# Altium footprint library QFN_Sq_50P_Side_V.PcbLib: 22 footprints (part 2 of 2)
Each footprint in its own frame and in the unit in brackets; x right, y up, seen from the top. Pads: shape width x height; smd on the part's side, far side on the other; paste and mask are expansions set on the pad; w line width, h text height; cw(c..) or ccw(c..) is an arc to the next point about the centre after c.
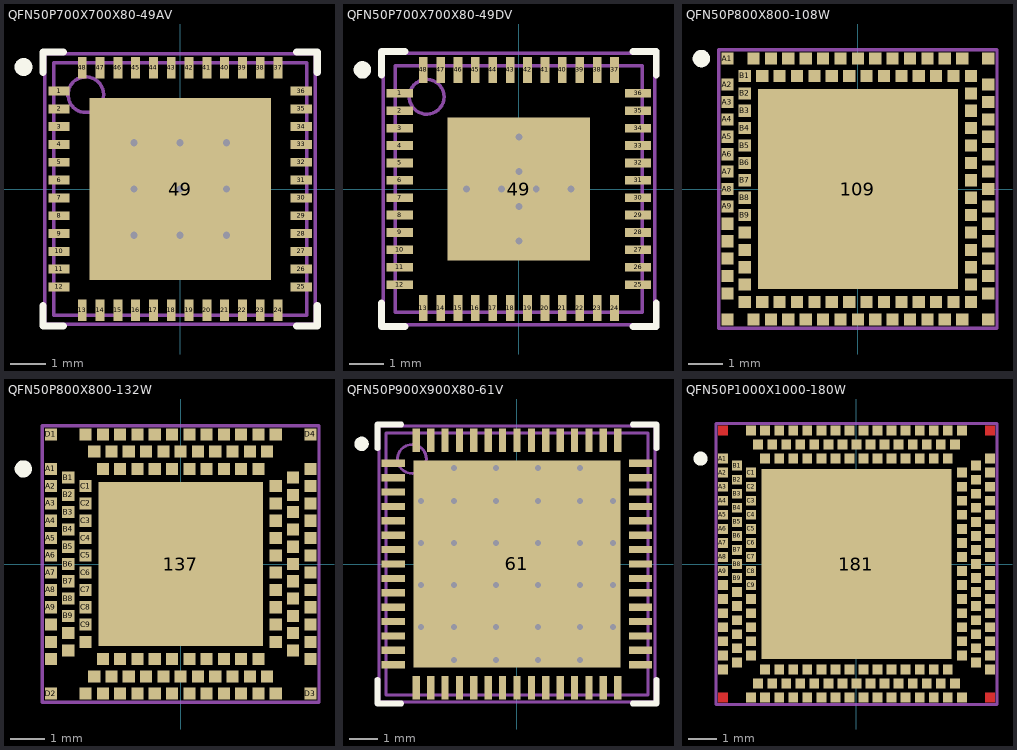
[diagram p1: the footprints below, top view; thin cyan lines are the x and y axes]

## QFN50P700X700X80-49AV [mm] "QFN, 48-Leads, Body 7x7mm, Pitch 0.5mm, NSC Recommended"
height 0.8
pads (49):
  rect 0.6x0.25 smd paste-0.125 mask+0.051: 1(-3.4,2.75) 2(-3.4,2.25) 3(-3.4,1.75) 4(-3.4,1.25) 5(-3.4,0.75) 6(-3.4,0.25) 7(-3.4,-0.25) 8(-3.4,-0.75) 9(-3.4,-1.25) 10(-3.4,-1.75) 11(-3.4,-2.25) 12(-3.4,-2.75) 25(3.4,-2.75) 26(3.4,-2.25) 27(3.4,-1.75) 28(3.4,-1.25) 29(3.4,-0.75) 30(3.4,-0.25) 31(3.4,0.25) 32(3.4,0.75) 33(3.4,1.25) 34(3.4,1.75) 35(3.4,2.25) 36(3.4,2.75)
  rect 0.25x0.6 smd paste-0.125 mask+0.051: 13(-2.75,-3.4) 14(-2.25,-3.4) 15(-1.75,-3.4) 16(-1.25,-3.4) 17(-0.75,-3.4) 18(-0.25,-3.4) 19(0.25,-3.4) 20(0.75,-3.4) 21(1.25,-3.4) 22(1.75,-3.4) 23(2.25,-3.4) 24(2.75,-3.4) 37(2.75,3.4) 38(2.25,3.4) 39(1.75,3.4) 40(1.25,3.4) 41(0.75,3.4) 42(0.25,3.4) 43(-0.25,3.4) 44(-0.75,3.4) 45(-1.25,3.4) 46(-1.75,3.4) 47(-2.25,3.4) 48(-2.75,3.4)
  rect 5.1x5.1 smd paste-2.55 mask+0.051: 49(0,0)
via 0,0 diameter 0.5 hole 0.2
via 1.3,0 diameter 0.5 hole 0.2
via -1.3,0 diameter 0.5 hole 0.2
via -1.3,1.3 diameter 0.5 hole 0.2
via 1.3,1.3 diameter 0.5 hole 0.2
via 0,1.3 diameter 0.5 hole 0.2
via -1.3,-1.3 diameter 0.5 hole 0.2
via 1.3,-1.3 diameter 0.5 hole 0.2
via 0,-1.3 diameter 0.5 hole 0.2
Top Overlay:
  circle w0.25: c-4.4,3.425 r0.125
  lines w0.2: -3.85,-3.275 -3.85,-3.85 -3.275,-3.85 ; -3.85,3.275 -3.85,3.85 -3.275,3.85 ; 3.275,-3.85 3.85,-3.85 3.85,-3.275 ; 3.275,3.85 3.85,3.85 3.85,3.275
Top Paste:
  region: 0.1,-0.1 0.1,-1.2 1.2,-1.2 1.2,-0.1
  region: 1.4,-0.1 1.4,-1.2 2.5,-1.2 2.5,-0.1
  region: 0.1,-1.4 0.1,-2.5 1.2,-2.5 1.2,-1.4
  region: 1.4,-1.4 1.4,-2.5 2.5,-2.5 2.5,-1.4
  region: -1.2,-0.1 -1.2,-1.2 -0.1,-1.2 -0.1,-0.1
  region: -2.5,-0.1 -2.5,-1.2 -1.4,-1.2 -1.4,-0.1
  region: -1.2,-1.4 -1.2,-2.5 -0.1,-2.5 -0.1,-1.4
  region: -2.5,-1.4 -2.5,-2.5 -1.4,-2.5 -1.4,-1.4
  region: -0.1,1.2 -1.2,1.2 -1.2,0.1 -0.1,0.1
  region: -0.1,2.5 -1.2,2.5 -1.2,1.4 -0.1,1.4
  region: -1.4,1.2 -2.5,1.2 -2.5,0.1 -1.4,0.1
  region: -1.4,2.5 -2.5,2.5 -2.5,1.4 -1.4,1.4
  rectangle: 1.4,1.4 2.5,2.5
  rectangle: 1.4,0.1 2.5,1.2
  rectangle: 0.1,1.4 1.2,2.5
  rectangle: 0.1,0.1 1.2,1.2
  region: 2.625,3.9 2.625,3.2 2.875,3.2 2.875,3.9
  region: 2.125,3.9 2.125,3.2 2.375,3.2 2.375,3.9
  region: 1.625,3.9 1.625,3.2 1.875,3.2 1.875,3.9
  region: 1.125,3.9 1.125,3.2 1.375,3.2 1.375,3.9
  region: 0.625,3.9 0.625,3.2 0.875,3.2 0.875,3.9
  region: 0.125,3.9 0.125,3.2 0.375,3.2 0.375,3.9
  region: -0.375,3.9 -0.375,3.2 -0.125,3.2 -0.125,3.9
  region: -0.875,3.9 -0.875,3.2 -0.625,3.2 -0.625,3.9
  region: -1.375,3.9 -1.375,3.2 -1.125,3.2 -1.125,3.9
  region: -1.875,3.9 -1.875,3.2 -1.625,3.2 -1.625,3.9
  region: -2.375,3.9 -2.375,3.2 -2.125,3.2 -2.125,3.9
  region: -2.875,3.9 -2.875,3.2 -2.625,3.2 -2.625,3.9
  region: 3.9,-2.625 3.2,-2.625 3.2,-2.875 3.9,-2.875
  region: 3.9,-2.125 3.2,-2.125 3.2,-2.375 3.9,-2.375
  region: 3.9,-1.625 3.2,-1.625 3.2,-1.875 3.9,-1.875
  region: 3.9,-1.125 3.2,-1.125 3.2,-1.375 3.9,-1.375
  region: 3.9,-0.625 3.2,-0.625 3.2,-0.875 3.9,-0.875
  region: 3.9,-0.125 3.2,-0.125 3.2,-0.375 3.9,-0.375
  region: 3.9,0.375 3.2,0.375 3.2,0.125 3.9,0.125
  region: 3.9,0.875 3.2,0.875 3.2,0.625 3.9,0.625
  region: 3.9,1.375 3.2,1.375 3.2,1.125 3.9,1.125
  region: 3.9,1.875 3.2,1.875 3.2,1.625 3.9,1.625
  region: 3.9,2.375 3.2,2.375 3.2,2.125 3.9,2.125
  region: 3.9,2.875 3.2,2.875 3.2,2.625 3.9,2.625
  region: -2.625,-3.9 -2.625,-3.2 -2.875,-3.2 -2.875,-3.9
  region: -2.125,-3.9 -2.125,-3.2 -2.375,-3.2 -2.375,-3.9
  region: -1.625,-3.9 -1.625,-3.2 -1.875,-3.2 -1.875,-3.9
  region: -1.125,-3.9 -1.125,-3.2 -1.375,-3.2 -1.375,-3.9
  region: -0.625,-3.9 -0.625,-3.2 -0.875,-3.2 -0.875,-3.9
  region: -0.125,-3.9 -0.125,-3.2 -0.375,-3.2 -0.375,-3.9
  region: 0.375,-3.9 0.375,-3.2 0.125,-3.2 0.125,-3.9
  region: 0.875,-3.9 0.875,-3.2 0.625,-3.2 0.625,-3.9
  region: 1.375,-3.9 1.375,-3.2 1.125,-3.2 1.125,-3.9
  region: 1.875,-3.9 1.875,-3.2 1.625,-3.2 1.625,-3.9
  region: 2.375,-3.9 2.375,-3.2 2.125,-3.2 2.125,-3.9
  region: 2.875,-3.9 2.875,-3.2 2.625,-3.2 2.625,-3.9
  rectangle: -3.9,-2.875 -3.2,-2.625
  rectangle: -3.9,-2.375 -3.2,-2.125
  rectangle: -3.9,-1.875 -3.2,-1.625
  rectangle: -3.9,-1.375 -3.2,-1.125
  rectangle: -3.9,-0.875 -3.2,-0.625
  rectangle: -3.9,-0.375 -3.2,-0.125
  rectangle: -3.9,0.125 -3.2,0.375
  rectangle: -3.9,0.625 -3.2,0.875
  rectangle: -3.9,1.125 -3.2,1.375
  rectangle: -3.9,1.625 -3.2,1.875
  rectangle: -3.9,2.125 -3.2,2.375
  rectangle: -3.9,2.625 -3.2,2.875
Mechanical 13:
  circle w0.1: c-2.65,2.65 r0.5
  lines w0.1: -3.55,-3.55 -3.55,3.55 3.55,3.55 3.55,-3.55 -3.55,-3.55
Mechanical 15:
  lines w0.1: -0.5,0 0.5,0 ; 0,-0.5 0,0.5 ; -3.8,-3.8 -3.8,3.8 3.8,3.8 3.8,-3.8 -3.8,-3.8
3D body: height 0.8, standoff 0, extent -3.55,-3.55 3.55,3.55

## QFN50P700X700X80-49DV [mm] "QFN, 48-Leads, Body 7x7mm, Pitch 0.5mm, NSC Recommended"
height 0.8
pads (49):
  rect 0.75x0.25 smd paste-0.125 mask+0.051: 1(-3.425,2.75) 2(-3.425,2.25) 3(-3.425,1.75) 4(-3.425,1.25) 5(-3.425,0.75) 6(-3.425,0.25) 7(-3.425,-0.25) 8(-3.425,-0.75) 9(-3.425,-1.25) 10(-3.425,-1.75) 11(-3.425,-2.25) 12(-3.425,-2.75) 25(3.425,-2.75) 26(3.425,-2.25) 27(3.425,-1.75) 28(3.425,-1.25) 29(3.425,-0.75) 30(3.425,-0.25) 31(3.425,0.25) 32(3.425,0.75) 33(3.425,1.25) 34(3.425,1.75) 35(3.425,2.25) 36(3.425,2.75)
  rect 0.25x0.75 smd paste-0.125 mask+0.051: 13(-2.75,-3.425) 14(-2.25,-3.425) 15(-1.75,-3.425) 16(-1.25,-3.425) 17(-0.75,-3.425) 18(-0.25,-3.425) 19(0.25,-3.425) 20(0.75,-3.425) 21(1.25,-3.425) 22(1.75,-3.425) 23(2.25,-3.425) 24(2.75,-3.425) 37(2.75,3.425) 38(2.25,3.425) 39(1.75,3.425) 40(1.25,3.425) 41(0.75,3.425) 42(0.25,3.425) 43(-0.25,3.425) 44(-0.75,3.425) 45(-1.25,3.425) 46(-1.75,3.425) 47(-2.25,3.425) 48(-2.75,3.425)
  rect 4.1x4.1 smd paste-2.05 mask+0.051: 49(0,0)
via 0,0.5 diameter 0.5 hole 0.2
via 0,-0.5 diameter 0.5 hole 0.2
via 0.5,0 diameter 0.5 hole 0.2
via -0.5,0 diameter 0.5 hole 0.2
via 1.5,0 diameter 0.5 hole 0.2
via 0,1.5 diameter 0.5 hole 0.2
via 0,-1.5 diameter 0.5 hole 0.2
via -1.5,0 diameter 0.5 hole 0.2
Top Overlay:
  circle w0.25: c-4.5,3.425 r0.125
  lines w0.2: -3.95,-3.275 -3.95,-3.95 -3.275,-3.95 ; -3.95,3.275 -3.95,3.95 -3.275,3.95 ; 3.275,-3.95 3.95,-3.95 3.95,-3.275 ; 3.275,3.95 3.95,3.95 3.95,3.275
Top Paste:
  rectangle: 0.1,-1.9 1.9,-0.1
  region: -0.1,-0.1 -1.9,-0.1 -1.9,-1.9 -0.1,-1.9
  region: -0.1,1.9 -1.9,1.9 -1.9,0.1 -0.1,0.1
  rectangle: 0.1,0.1 1.9,1.9
  rectangle: -4,2.625 -3.15,2.875
  rectangle: -4,2.125 -3.15,2.375
  rectangle: -4,1.625 -3.15,1.875
  rectangle: -4,1.125 -3.15,1.375
  rectangle: -4,0.625 -3.15,0.875
  rectangle: -4,0.125 -3.15,0.375
  rectangle: -4,-0.375 -3.15,-0.125
  rectangle: -4,-0.875 -3.15,-0.625
  rectangle: -4,-1.375 -3.15,-1.125
  rectangle: -4,-1.875 -3.15,-1.625
  rectangle: -4,-2.375 -3.15,-2.125
  rectangle: -4,-2.875 -3.15,-2.625
  region: 4,-2.625 3.15,-2.625 3.15,-2.875 4,-2.875
  region: 4,-2.125 3.15,-2.125 3.15,-2.375 4,-2.375
  region: 4,-1.625 3.15,-1.625 3.15,-1.875 4,-1.875
  region: 4,-1.125 3.15,-1.125 3.15,-1.375 4,-1.375
  region: 4,-0.625 3.15,-0.625 3.15,-0.875 4,-0.875
  region: 4,-0.125 3.15,-0.125 3.15,-0.375 4,-0.375
  region: 4,0.375 3.15,0.375 3.15,0.125 4,0.125
  region: 4,0.875 3.15,0.875 3.15,0.625 4,0.625
  region: 4,1.375 3.15,1.375 3.15,1.125 4,1.125
  region: 4,1.875 3.15,1.875 3.15,1.625 4,1.625
  region: 4,2.375 3.15,2.375 3.15,2.125 4,2.125
  region: 4,2.875 3.15,2.875 3.15,2.625 4,2.625
  region: 2.625,4 2.625,3.15 2.875,3.15 2.875,4
  region: 2.125,4 2.125,3.15 2.375,3.15 2.375,4
  region: 1.625,4 1.625,3.15 1.875,3.15 1.875,4
  region: 1.125,4 1.125,3.15 1.375,3.15 1.375,4
  region: 0.625,4 0.625,3.15 0.875,3.15 0.875,4
  region: 0.125,4 0.125,3.15 0.375,3.15 0.375,4
  region: -0.375,4 -0.375,3.15 -0.125,3.15 -0.125,4
  region: -0.875,4 -0.875,3.15 -0.625,3.15 -0.625,4
  region: -1.375,4 -1.375,3.15 -1.125,3.15 -1.125,4
  region: -1.875,4 -1.875,3.15 -1.625,3.15 -1.625,4
  region: -2.375,4 -2.375,3.15 -2.125,3.15 -2.125,4
  region: -2.875,4 -2.875,3.15 -2.625,3.15 -2.625,4
  region: 2.875,-4 2.875,-3.15 2.625,-3.15 2.625,-4
  region: 2.375,-4 2.375,-3.15 2.125,-3.15 2.125,-4
  region: 1.875,-4 1.875,-3.15 1.625,-3.15 1.625,-4
  region: 1.375,-4 1.375,-3.15 1.125,-3.15 1.125,-4
  region: 0.875,-4 0.875,-3.15 0.625,-3.15 0.625,-4
  region: 0.375,-4 0.375,-3.15 0.125,-3.15 0.125,-4
  region: -0.125,-4 -0.125,-3.15 -0.375,-3.15 -0.375,-4
  region: -0.625,-4 -0.625,-3.15 -0.875,-3.15 -0.875,-4
  region: -1.125,-4 -1.125,-3.15 -1.375,-3.15 -1.375,-4
  region: -1.625,-4 -1.625,-3.15 -1.875,-3.15 -1.875,-4
  region: -2.125,-4 -2.125,-3.15 -2.375,-3.15 -2.375,-4
  region: -2.625,-4 -2.625,-3.15 -2.875,-3.15 -2.875,-4
Mechanical 13:
  circle w0.1: c-2.65,2.65 r0.5
  lines w0.1: -3.55,-3.55 -3.55,3.55 3.55,3.55 3.55,-3.55 -3.55,-3.55
Mechanical 15:
  lines w0.1: -0.5,0 0.5,0 ; 0,-0.5 0,0.5 ; -3.9,-3.9 -3.9,3.9 3.9,3.9 3.9,-3.9 -3.9,-3.9
3D body: height 0.8, standoff 0, extent -3.55,-3.55 3.55,3.55

## QFN50P800X800-108W [mm] "QFN, 108-Leads, Body 8x8mm, Pitch 0.5mm"
height 0.8
pads (109):
  rect 5.75x5.75 smd: 109(0,0)
  rect 0.35x0.35 smd: A1(-3.75,3.75) A2(-3.75,3) A3(-3.75,2.5) A4(-3.75,2) A5(-3.75,1.5) A6(-3.75,1) A7(-3.75,0.5) A8(-3.75,0) A9(-3.75,-0.5) A10(-3.75,-1) A11(-3.75,-1.5) A12(-3.75,-2) A13(-3.75,-2.5) A14(-3.75,-3) A15(-3.75,-3.75) A16(-3,-3.75) A17(-2.5,-3.75) A18(-2,-3.75) A19(-1.5,-3.75) A20(-1,-3.75) A21(-0.5,-3.75) A22(0,-3.75) A23(0.5,-3.75) A24(1,-3.75) A25(1.5,-3.75) A26(2,-3.75) A27(2.5,-3.75) A28(3,-3.75) A29(3.75,-3.75) A30(3.75,-3) A31(3.75,-2.5) A32(3.75,-2) A33(3.75,-1.5) A34(3.75,-1) A35(3.75,-0.5) A36(3.75,0) A37(3.75,0.5) A38(3.75,1) A39(3.75,1.5) A40(3.75,2) A41(3.75,2.5) A42(3.75,3) A43(3.75,3.75) A44(3,3.75) A45(2.5,3.75) A46(2,3.75) A47(1.5,3.75) A48(1,3.75) A49(0.5,3.75) A50(0,3.75) A51(-0.5,3.75) A52(-1,3.75) A53(-1.5,3.75) A54(-2,3.75) A55(-2.5,3.75) A56(-3,3.75) B1(-3.25,3.25) B2(-3.25,2.75) B3(-3.25,2.25) B4(-3.25,1.75) B5(-3.25,1.25) B6(-3.25,0.75) B7(-3.25,0.25) B8(-3.25,-0.25) B9(-3.25,-0.75) B10(-3.25,-1.25) B11(-3.25,-1.75) B12(-3.25,-2.25) B13(-3.25,-2.75) B14(-3.25,-3.25) B15(-2.75,-3.25) B16(-2.25,-3.25) B17(-1.75,-3.25) B18(-1.25,-3.25) B19(-0.75,-3.25) B20(-0.25,-3.25) B21(0.25,-3.25) B22(0.75,-3.25) B23(1.25,-3.25) B24(1.75,-3.25) B25(2.25,-3.25) B26(2.75,-3.25) B27(3.25,-3.25) B28(3.25,-2.75) B29(3.25,-2.25) B30(3.25,-1.75) B31(3.25,-1.25) B32(3.25,-0.75) B33(3.25,-0.25) B34(3.25,0.25) B35(3.25,0.75) B36(3.25,1.25) B37(3.25,1.75) B38(3.25,2.25) B39(3.25,2.75) B40(3.25,3.25) B41(2.75,3.25) B42(2.25,3.25) B43(1.75,3.25) B44(1.25,3.25) B45(0.75,3.25) B46(0.25,3.25) B47(-0.25,3.25) B48(-0.75,3.25) B49(-1.25,3.25) B50(-1.75,3.25) B51(-2.25,3.25) B52(-2.75,3.25)
Top Overlay:
  circle w0.25: c-4.5,3.75 r0.125
Mechanical 13:
  lines w0.1: -4,-4 -4,4 4,4 4,-4 -4,-4

## QFN50P800X800-132W [mm] "QFN, 132-Leads, Body 8x8mm, Pitch 0.5mm"
height 0.8
pads (137):
  rect 4.75x4.75 smd: 137(0,0)
  rect 0.35x0.35 smd: A1(-3.75,2.75) A2(-3.75,2.25) A3(-3.75,1.75) A4(-3.75,1.25) A5(-3.75,0.75) A6(-3.75,0.25) A7(-3.75,-0.25) A8(-3.75,-0.75) A9(-3.75,-1.25) A10(-3.75,-1.75) A11(-3.75,-2.25) A12(-3.75,-2.75) A13(-2.75,-3.75) A14(-2.25,-3.75) A15(-1.75,-3.75) A16(-1.25,-3.75) A17(-0.75,-3.75) A18(-0.25,-3.75) A19(0.25,-3.75) A20(0.75,-3.75) A21(1.25,-3.75) A22(1.75,-3.75) A23(2.25,-3.75) A24(2.75,-3.75) A25(3.75,-2.75) A26(3.75,-2.25) A27(3.75,-1.75) A28(3.75,-1.25) A29(3.75,-0.75) A30(3.75,-0.25) A31(3.75,0.25) A32(3.75,0.75) A33(3.75,1.25) A34(3.75,1.75) A35(3.75,2.25) A36(3.75,2.75) A37(2.75,3.75) A38(2.25,3.75) A39(1.75,3.75) A40(1.25,3.75) A41(0.75,3.75) A42(0.25,3.75) A43(-0.25,3.75) A44(-0.75,3.75) A45(-1.25,3.75) A46(-1.75,3.75) A47(-2.25,3.75) A48(-2.75,3.75) B1(-3.25,2.5) B2(-3.25,2) B3(-3.25,1.5) B4(-3.25,1) B5(-3.25,0.5) B6(-3.25,0) B7(-3.25,-0.5) B8(-3.25,-1) B9(-3.25,-1.5) B10(-3.25,-2) B11(-3.25,-2.5) B12(-2.5,-3.25) B13(-2,-3.25) B14(-1.5,-3.25) B15(-1,-3.25) B16(-0.5,-3.25) B17(0,-3.25) B18(0.5,-3.25) B19(1,-3.25) B20(1.5,-3.25) B21(2,-3.25) B22(2.5,-3.25) B23(3.25,-2.5) B24(3.25,-2) B25(3.25,-1.5) B26(3.25,-1) B27(3.25,-0.5) B28(3.25,0) B29(3.25,0.5) B30(3.25,1) B31(3.25,1.5) B32(3.25,2) B33(3.25,2.5) B34(2.5,3.25) B35(2,3.25) B36(1.5,3.25) B37(1,3.25) B38(0.5,3.25) B39(0,3.25) B40(-0.5,3.25) B41(-1,3.25) B42(-1.5,3.25) B43(-2,3.25) B44(-2.5,3.25) C1(-2.75,2.25) C2(-2.75,1.75) C3(-2.75,1.25) C4(-2.75,0.75) C5(-2.75,0.25) C6(-2.75,-0.25) C7(-2.75,-0.75) C8(-2.75,-1.25) C9(-2.75,-1.75) C10(-2.75,-2.25) C11(-2.25,-2.75) C12(-1.75,-2.75) C13(-1.25,-2.75) C14(-0.75,-2.75) C15(-0.25,-2.75) C16(0.25,-2.75) C17(0.75,-2.75) C18(1.25,-2.75) C19(1.75,-2.75) C20(2.25,-2.75) C21(2.75,-2.25) C22(2.75,-1.75) C23(2.75,-1.25) C24(2.75,-0.75) C25(2.75,-0.25) C26(2.75,0.25) C27(2.75,0.75) C28(2.75,1.25) C29(2.75,1.75) C30(2.75,2.25) C31(2.25,2.75) C32(1.75,2.75) C33(1.25,2.75) C34(0.75,2.75) C35(0.25,2.75) C36(-0.25,2.75) C37(-0.75,2.75) C38(-1.25,2.75) C39(-1.75,2.75) C40(-2.25,2.75) D1(-3.75,3.75) D2(-3.75,-3.75) D3(3.75,-3.75) D4(3.75,3.75)
Top Overlay:
  circle w0.25: c-4.55,2.75 r0.125
Mechanical 13:
  lines w0.1: -4,-4 4,-4 4,4 -4,4 -4,-4

## QFN50P900X900X80-61V [mm] "QFN, 60-Leads, Body 9x9mm, Pitch 0.5mm, NSC Recommended"
height 0.8
pads (61):
  rect 0.8x0.25 smd paste-0.125 mask+0.051: 1(-4.3,3.5) 2(-4.3,3) 3(-4.3,2.5) 4(-4.3,2) 5(-4.3,1.5) 6(-4.3,1) 7(-4.3,0.5) 8(-4.3,0) 9(-4.3,-0.5) 10(-4.3,-1) 11(-4.3,-1.5) 12(-4.3,-2) 13(-4.3,-2.5) 14(-4.3,-3) 15(-4.3,-3.5) 31(4.3,-3.5) 32(4.3,-3) 33(4.3,-2.5) 34(4.3,-2) 35(4.3,-1.5) 36(4.3,-1) 37(4.3,-0.5) 38(4.3,0) 39(4.3,0.5) 40(4.3,1) 41(4.3,1.5) 42(4.3,2) 43(4.3,2.5) 44(4.3,3) 45(4.3,3.5)
  rect 0.25x0.8 smd paste-0.125 mask+0.051: 16(-3.5,-4.3) 17(-3,-4.3) 18(-2.5,-4.3) 19(-2,-4.3) 20(-1.5,-4.3) 21(-1,-4.3) 22(-0.5,-4.3) 23(0,-4.3) 24(0.5,-4.3) 25(1,-4.3) 26(1.5,-4.3) 27(2,-4.3) 28(2.5,-4.3) 29(3,-4.3) 30(3.5,-4.3) 46(3.5,4.3) 47(3,4.3) 48(2.5,4.3) 49(2,4.3) 50(1.5,4.3) 51(1,4.3) 52(0.5,4.3) 53(0,4.3) 54(-0.5,4.3) 55(-1,4.3) 56(-1.5,4.3) 57(-2,4.3) 58(-2.5,4.3) 59(-3,4.3) 60(-3.5,4.3)
  rect 7.2x7.2 smd paste-3.6 mask+0.051: 61(0,0)
via 0.73,0.73 diameter 0.5 hole 0.2
via -0.73,0.73 diameter 0.5 hole 0.2
via -0.73,-0.73 diameter 0.5 hole 0.2
via 0.73,-0.73 diameter 0.5 hole 0.2
via -2.19,0.73 diameter 0.5 hole 0.2
via 2.19,0.73 diameter 0.5 hole 0.2
via 2.19,-0.73 diameter 0.5 hole 0.2
via -2.19,-0.73 diameter 0.5 hole 0.2
via -2.19,-2.19 diameter 0.5 hole 0.2
via -0.73,-2.19 diameter 0.5 hole 0.2
via 0.73,-2.19 diameter 0.5 hole 0.2
via 2.19,-2.19 diameter 0.5 hole 0.2
via -2.19,2.19 diameter 0.5 hole 0.2
via -0.73,2.19 diameter 0.5 hole 0.2
via 0.73,2.19 diameter 0.5 hole 0.2
via 2.19,2.19 diameter 0.5 hole 0.2
via -2.19,3.34 diameter 0.5 hole 0.2
via -0.73,3.34 diameter 0.5 hole 0.2
via 0.73,3.34 diameter 0.5 hole 0.2
via 2.19,3.34 diameter 0.5 hole 0.2
via 0.73,-3.34 diameter 0.5 hole 0.2
via 2.19,-3.34 diameter 0.5 hole 0.2
via -0.73,-3.34 diameter 0.5 hole 0.2
via -2.19,-3.34 diameter 0.5 hole 0.2
via 3.34,-0.73 diameter 0.5 hole 0.2
via 3.34,-2.19 diameter 0.5 hole 0.2
via -3.34,-2.19 diameter 0.5 hole 0.2
via -3.34,-0.73 diameter 0.5 hole 0.2
via -3.34,2.19 diameter 0.5 hole 0.2
via -3.34,0.73 diameter 0.5 hole 0.2
via 3.34,2.19 diameter 0.5 hole 0.2
via 3.34,0.73 diameter 0.5 hole 0.2
Top Overlay:
  circle w0.25: c-5.4,4.175 r0.125
  lines w0.2: -4.85,-4.025 -4.85,-4.85 -4.025,-4.85 ; -4.85,4.025 -4.85,4.85 -4.025,4.85 ; 4.025,-4.85 4.85,-4.85 4.85,-4.025 ; 4.025,4.85 4.85,4.85 4.85,4.025
Top Paste:
  rectangle: -0.58,-0.58 0.58,0.58
  rectangle: -4.9,3.375 -4,3.625
  rectangle: -4.9,2.875 -4,3.125
  rectangle: -4.9,2.375 -4,2.625
  rectangle: -4.9,1.875 -4,2.125
  rectangle: -4.9,1.375 -4,1.625
  rectangle: -4.9,0.875 -4,1.125
  rectangle: -4.9,0.375 -4,0.625
  rectangle: -4.9,-0.125 -4,0.125
  rectangle: -4.9,-0.625 -4,-0.375
  rectangle: -4.9,-1.125 -4,-0.875
  rectangle: -4.9,-1.625 -4,-1.375
  rectangle: -4.9,-2.125 -4,-1.875
  rectangle: -4.9,-2.625 -4,-2.375
  rectangle: -4.9,-3.125 -4,-2.875
  rectangle: -4.9,-3.625 -4,-3.375
  region: 3.625,-4.9 3.625,-4 3.375,-4 3.375,-4.9
  region: 3.125,-4.9 3.125,-4 2.875,-4 2.875,-4.9
  region: 2.625,-4.9 2.625,-4 2.375,-4 2.375,-4.9
  region: 2.125,-4.9 2.125,-4 1.875,-4 1.875,-4.9
  region: 1.625,-4.9 1.625,-4 1.375,-4 1.375,-4.9
  region: 1.125,-4.9 1.125,-4 0.875,-4 0.875,-4.9
  region: 0.625,-4.9 0.625,-4 0.375,-4 0.375,-4.9
  region: 0.125,-4.9 0.125,-4 -0.125,-4 -0.125,-4.9
  region: -0.375,-4.9 -0.375,-4 -0.625,-4 -0.625,-4.9
  region: -0.875,-4.9 -0.875,-4 -1.125,-4 -1.125,-4.9
  region: -1.375,-4.9 -1.375,-4 -1.625,-4 -1.625,-4.9
  region: -1.875,-4.9 -1.875,-4 -2.125,-4 -2.125,-4.9
  region: -2.375,-4.9 -2.375,-4 -2.625,-4 -2.625,-4.9
  region: -2.875,-4.9 -2.875,-4 -3.125,-4 -3.125,-4.9
  region: -3.375,-4.9 -3.375,-4 -3.625,-4 -3.625,-4.9
  region: 4.9,3.625 4,3.625 4,3.375 4.9,3.375
  region: 4.9,3.125 4,3.125 4,2.875 4.9,2.875
  region: 4.9,2.625 4,2.625 4,2.375 4.9,2.375
  region: 4.9,2.125 4,2.125 4,1.875 4.9,1.875
  region: 4.9,1.625 4,1.625 4,1.375 4.9,1.375
  region: 4.9,1.125 4,1.125 4,0.875 4.9,0.875
  region: 4.9,0.625 4,0.625 4,0.375 4.9,0.375
  region: 4.9,0.125 4,0.125 4,-0.125 4.9,-0.125
  region: 4.9,-0.375 4,-0.375 4,-0.625 4.9,-0.625
  region: 4.9,-0.875 4,-0.875 4,-1.125 4.9,-1.125
  region: 4.9,-1.375 4,-1.375 4,-1.625 4.9,-1.625
  region: 4.9,-1.875 4,-1.875 4,-2.125 4.9,-2.125
  region: 4.9,-2.375 4,-2.375 4,-2.625 4.9,-2.625
  region: 4.9,-2.875 4,-2.875 4,-3.125 4.9,-3.125
  region: 4.9,-3.375 4,-3.375 4,-3.625 4.9,-3.625
  region: -3.625,4.9 -3.625,4 -3.375,4 -3.375,4.9
  region: -3.125,4.9 -3.125,4 -2.875,4 -2.875,4.9
  region: -2.625,4.9 -2.625,4 -2.375,4 -2.375,4.9
  region: -2.125,4.9 -2.125,4 -1.875,4 -1.875,4.9
  region: -1.625,4.9 -1.625,4 -1.375,4 -1.375,4.9
  region: -1.125,4.9 -1.125,4 -0.875,4 -0.875,4.9
  region: -0.625,4.9 -0.625,4 -0.375,4 -0.375,4.9
  region: -0.125,4.9 -0.125,4 0.125,4 0.125,4.9
  region: 0.375,4.9 0.375,4 0.625,4 0.625,4.9
  region: 0.875,4.9 0.875,4 1.125,4 1.125,4.9
  region: 1.375,4.9 1.375,4 1.625,4 1.625,4.9
  region: 1.875,4.9 1.875,4 2.125,4 2.125,4.9
  region: 2.375,4.9 2.375,4 2.625,4 2.625,4.9
  region: 2.875,4.9 2.875,4 3.125,4 3.125,4.9
  region: 3.375,4.9 3.375,4 3.625,4 3.625,4.9
  rectangle: 0.88,-0.58 2.04,0.58
  rectangle: 2.34,-0.58 3.5,0.58
  rectangle: 0.88,0.88 2.04,2.04
  rectangle: 0.88,2.34 2.04,3.5
  rectangle: 2.34,2.34 3.5,3.5
  rectangle: 2.34,0.88 3.5,2.04
  rectangle: -0.58,0.88 0.58,2.04
  rectangle: -0.58,2.34 0.58,3.5
  rectangle: -2.04,2.34 -0.88,3.5
  rectangle: -3.5,2.34 -2.34,3.5
  rectangle: -3.5,0.88 -2.34,2.04
  rectangle: -2.04,0.88 -0.88,2.04
  rectangle: -2.04,-0.58 -0.88,0.58
  rectangle: -3.5,-0.58 -2.34,0.58
  rectangle: -3.5,-2.04 -2.34,-0.88
  rectangle: -2.04,-2.04 -0.88,-0.88
  rectangle: -0.58,-2.04 0.58,-0.88
  rectangle: 0.88,-2.04 2.04,-0.88
  rectangle: 2.34,-2.04 3.5,-0.88
  rectangle: 2.34,-3.5 3.5,-2.34
  rectangle: 0.88,-3.5 2.04,-2.34
  rectangle: -0.58,-3.5 0.58,-2.34
  rectangle: -2.04,-3.5 -0.88,-2.34
  rectangle: -3.5,-3.5 -2.34,-2.34
Mechanical 13:
  circle w0.1: c-3.65,3.65 r0.5
  lines w0.1: -4.55,-4.55 -4.55,4.55 4.55,4.55 4.55,-4.55 -4.55,-4.55
Mechanical 15:
  lines w0.1: -0.5,0 0.5,0 ; 0,-0.5 0,0.5 ; -4.8,-4.8 -4.8,4.8 4.8,4.8 4.8,-4.8 -4.8,-4.8
3D body: height 0.8, standoff 0, extent -4.55,-4.55 4.55,4.55

## QFN50P1000X1000-180W [mm] "QFN, 180-Leads, Body 10x10mm, Pitch 0.5mm"
height 0.8
pads (181):
  rect 6.75x6.75 smd: 181(0,0)
  rect 0.35x0.35 smd: A1(-4.75,3.75) A2(-4.75,3.25) A3(-4.75,2.75) A4(-4.75,2.25) A5(-4.75,1.75) A6(-4.75,1.25) A7(-4.75,0.75) A8(-4.75,0.25) A9(-4.75,-0.25) A10(-4.75,-0.75) A11(-4.75,-1.25) A12(-4.75,-1.75) A13(-4.75,-2.25) A14(-4.75,-2.75) A15(-4.75,-3.25) A16(-4.75,-3.75) A17(-3.75,-4.75) A18(-3.25,-4.75) A19(-2.75,-4.75) A20(-2.25,-4.75) A21(-1.75,-4.75) A22(-1.25,-4.75) A23(-0.75,-4.75) A24(-0.25,-4.75) A25(0.25,-4.75) A26(0.75,-4.75) A27(1.25,-4.75) A28(1.75,-4.75) A29(2.25,-4.75) A30(2.75,-4.75) A31(3.25,-4.75) A32(3.75,-4.75) A33(4.75,-3.75) A34(4.75,-3.25) A35(4.75,-2.75) A36(4.75,-2.25) A37(4.75,-1.75) A38(4.75,-1.25) A39(4.75,-0.75) A40(4.75,-0.25) A41(4.75,0.25) A42(4.75,0.75) A43(4.75,1.25) A44(4.75,1.75) A45(4.75,2.25) A46(4.75,2.75) A47(4.75,3.25) A48(4.75,3.75) A49(3.75,4.75) A50(3.25,4.75) A51(2.75,4.75) A52(2.25,4.75) A53(1.75,4.75) A54(1.25,4.75) A55(0.75,4.75) A56(0.25,4.75) A57(-0.25,4.75) A58(-0.75,4.75) A59(-1.25,4.75) A60(-1.75,4.75) A61(-2.25,4.75) A62(-2.75,4.75) A63(-3.25,4.75) A64(-3.75,4.75) B1(-4.25,3.5) B2(-4.25,3) B3(-4.25,2.5) B4(-4.25,2) B5(-4.25,1.5) B6(-4.25,1) B7(-4.25,0.5) B8(-4.25,0) B9(-4.25,-0.5) B10(-4.25,-1) B11(-4.25,-1.5) B12(-4.25,-2) B13(-4.25,-2.5) B14(-4.25,-3) B15(-4.25,-3.5) B16(-3.5,-4.25) B17(-3,-4.25) B18(-2.5,-4.25) B19(-2,-4.25) B20(-1.5,-4.25) B21(-1,-4.25) B22(-0.5,-4.25) B23(0,-4.25) B24(0.5,-4.25) B25(1,-4.25) B26(1.5,-4.25) B27(2,-4.25) B28(2.5,-4.25) B29(3,-4.25) B30(3.5,-4.25) B31(4.25,-3.5) B32(4.25,-3) B33(4.25,-2.5) B34(4.25,-2) B35(4.25,-1.5) B36(4.25,-1) B37(4.25,-0.5) B38(4.25,0) B39(4.25,0.5) B40(4.25,1) B41(4.25,1.5) B42(4.25,2) B43(4.25,2.5) B44(4.25,3) B45(4.25,3.5) B46(3.5,4.25) B47(3,4.25) B48(2.5,4.25) B49(2,4.25) B50(1.5,4.25) B51(1,4.25) B52(0.5,4.25) B53(0,4.25) B54(-0.5,4.25) B55(-1,4.25) B56(-1.5,4.25) B57(-2,4.25) B58(-2.5,4.25) B59(-3,4.25) B60(-3.5,4.25) C1(-3.75,3.25) C2(-3.75,2.75) C3(-3.75,2.25) C4(-3.75,1.75) C5(-3.75,1.25) C6(-3.75,0.75) C7(-3.75,0.25) C8(-3.75,-0.25) C9(-3.75,-0.75) C10(-3.75,-1.25) C11(-3.75,-1.75) C12(-3.75,-2.25) C13(-3.75,-2.75) C14(-3.75,-3.25) C15(-3.25,-3.75) C16(-2.75,-3.75) C17(-2.25,-3.75) C18(-1.75,-3.75) C19(-1.25,-3.75) C20(-0.75,-3.75) C21(-0.25,-3.75) C22(0.25,-3.75) C23(0.75,-3.75) C24(1.25,-3.75) C25(1.75,-3.75) C26(2.25,-3.75) C27(2.75,-3.75) C28(3.25,-3.75) C29(3.75,-3.25) C30(3.75,-2.75) C31(3.75,-2.25) C32(3.75,-1.75) C33(3.75,-1.25) C34(3.75,-0.75) C35(3.75,-0.25) C36(3.75,0.25) C37(3.75,0.75) C38(3.75,1.25) C39(3.75,1.75) C40(3.75,2.25) C41(3.75,2.75) C42(3.75,3.25) C43(3.25,3.75) C44(2.75,3.75) C45(2.25,3.75) C46(1.75,3.75) C47(1.25,3.75) C48(0.75,3.75) C49(0.25,3.75) C50(-0.25,3.75) C51(-0.75,3.75) C52(-1.25,3.75) C53(-1.75,3.75) C54(-2.25,3.75) C55(-2.75,3.75) C56(-3.25,3.75)
Top Layer:
  rectangle: -4.925,4.575 -4.575,4.925
  rectangle: -4.925,-4.925 -4.575,-4.575
  rectangle: 4.575,-4.925 4.925,-4.575
  rectangle: 4.575,4.575 4.925,4.925
Top Overlay:
  circle w0.25: c-5.55,3.75 r0.125
Mechanical 13:
  lines w0.1: -5,-5 5,-5 5,5 -5,5 -5,-5